# EAGLE library part 6871XX183722_687108183722 (library Wurth_Connectors_WR-FPC)
WR-FPC 0.50 mm SMT ZIF Horizontal Bottom Contact Low Profile KIND PROPERTIES Pitch 0.5 mm MATERIAL PROPERTIES Insulator Material LCP Contact Material Phosphor Bronze Contact Plating 120 (µ") Tin over 30 (µ") Nickel Contact Type Stamped Solder Tabs Brass <https://www.we-online.com/catalog/media/o83995v209%20Family_WR-FPC_6871xx183722.jpg> Details see: https://www.we-online.com/catalog/en/FPC_0_5_SMT_ZIF_HORIZONTAL_BOTTOM_CONTACT_LOW_PROFILE_6871xx183722/ Updated by Ella Wu 2020-08-26 2020(C) Wurth Elektronik
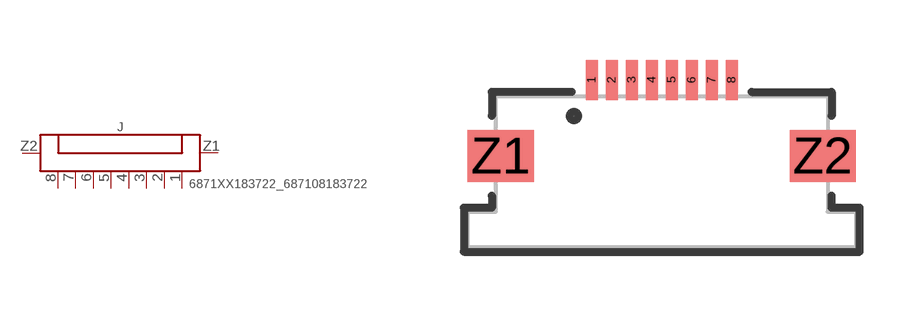
[diagram p41: symbol with the pads of 687108183722; footprint 687108183722]

Designator prefix J

## 6871XX183722_687108183722 (CONTACT-RESISTANCE: 30mOhm; DATASHEET-URL: https://www.we-online.com/catalog/datasheet/687108183722.pdf; IR: 0.4A; L: 9.7mm; PACKAGING: Tape and Reel; PART-NUMBER: 687108183722; PINS: 8; PITCH: 0.5mm; TYPE: Horizontal; VALUE: 687108183722; WORKING-VOLTAGE: 50V(AC))  [687108183722]
1  1  pas
2  2  pas
3  3  pas
4  4  pas
5  5  pas
6  6  pas
7  7  pas
8  8  pas
Z1  Z1  pas
Z2  Z2  pas

## Footprint 687108183722 (pad centres in mm)
WR-FPC 0.50 mm SMT ZIF Horizontal Bottom Contact Low Profile,8Pins
smd 0.3 x 1: 1 -1.75,2.3; 2 -1.25,2.3; 3 -0.75,2.3; 4 -0.25,2.3; 5 0.25,2.3; 6 0.75,2.3; 7 1.25,2.3; 8 1.75,2.3
smd 1.65 x 1.3: Z1 -4.025,0.4; Z2 4.025,0.4